# Altium footprint library IMU_REV_C.PcbLib: 10 footprints
Each footprint in its own frame and in the unit in brackets; x right, y up, seen from the top. Pads: shape width x height; smd on the part's side, far side on the other; paste and mask are expansions set on the pad; w line width, h text height; cw(c..) or ccw(c..) is an arc to the next point about the centre after c.
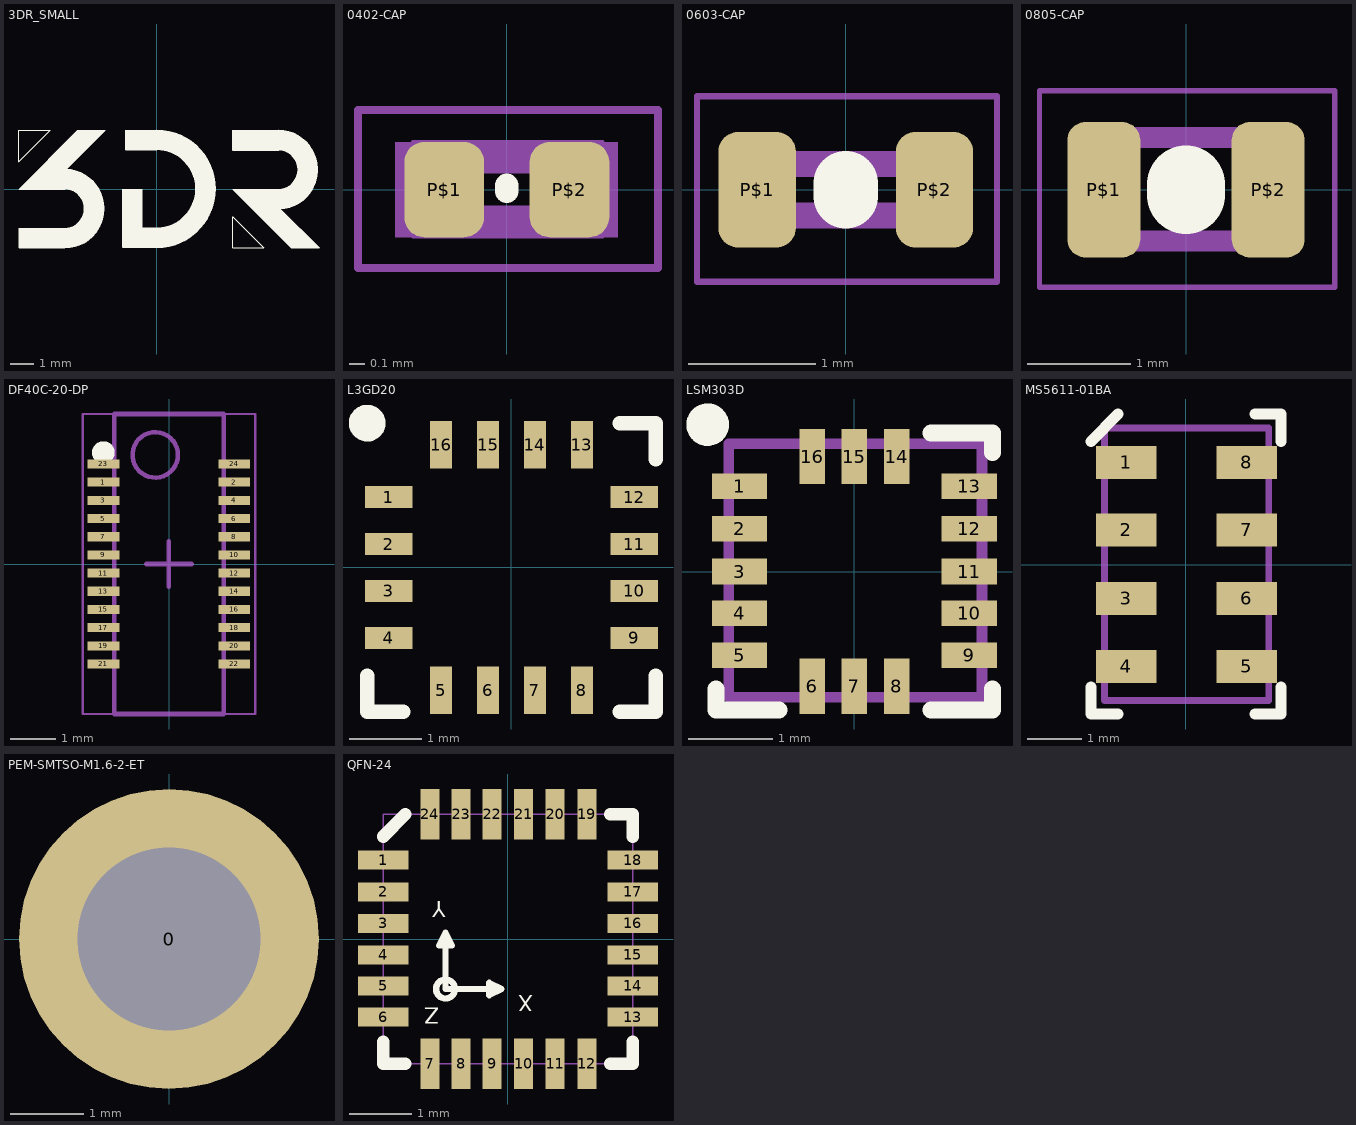
[diagram p0: the footprints below, top view; thin cyan lines are the x and y axes]

## 3DR_SMALL [mil]
Top Overlay:
  drawing of 45 lines, arcs and shapes, not listed
Top Solder:
  region: -235.2,47.62 -235.2,100.65 -182.17,100.65
  region: 182.63,-99.72 129.6,-99.72 129.6,-46.69

## 0402-CAP [mil]
pads (2):
  rrect50% 20x24 smd mask+0: P$1(-15.75,0) P$2(15.75,0)
Top Overlay:
  lines w6: 0,-0.39 0,1
Mechanical 16:
  rectangle: -28.04,-12 -16.04,12
  rectangle: 15.96,-12 27.96,12
  lines w1: -23.62,-11.81 24,-11.81 24,12 -23.62,12 -23.62,-11.81
  lines w2: -37.4,-19.68 38,-19.68 38,20 -37.4,20 -37.4,-19.68
  lines w8: -20,-8 20,-8 ; -20,8 20,8
3D body: height 19.68, standoff 0, extent -19.69,-9.84 19.69,9.84

## 0603-CAP [mil] "0603-CAP"
pads (2):
  rrect50% 24x36 smd mask+0: P$1(-27.56,0) P$2(27.56,0)
Top Overlay:
  lines w20: 0,-2 0,2
Mechanical 16:
  rectangle: -28,-12 -16,12
  rectangle: 16,-12 28,12
  lines w2: -46.26,-28.54 47,-28.54 47,29 -46.26,29 -46.26,-28.54
  lines w8: -20,-8 20,-8 ; -20,8 20,8
3D body: height 34.25, standoff -0.39, extent -31.5,-15.95 31.5,15.94

## 0805-CAP [mil]
pads (2):
  rrect50% 28x52 smd mask+0: P$1(-31.5,0) P$2(31.5,0)
Top Overlay:
  lines w30: 0,-2 0,2
Mechanical 16:
  rectangle: 24,-23.67 40,24
  rectangle: -39.37,-23.67 -23.62,24
  lines w2: -56.1,-37.4 -56.1,38 57,38 57,-37.4 -56.1,-37.4
  lines w8: -23.62,-19.68 24,-19.68 ; -23.62,20 24,20
3D body: height 30.79, standoff 0, extent -39.37,-24.6 39.37,24.6

## DF40C-20-DP [mm]
height 2
pads (24):
  rect 0.7x0.2 smd mask+0: 1(-1.444,1.8) 2(1.436,1.8) 3(-1.444,1.4) 4(1.436,1.4) 5(-1.444,1) 6(1.436,1) 7(-1.444,0.6) 8(1.436,0.6) 9(-1.444,0.2) 10(1.436,0.2) 11(-1.444,-0.2) 12(1.436,-0.2) 13(-1.444,-0.6) 14(1.436,-0.6) 15(-1.444,-1) 16(1.436,-1) 17(-1.444,-1.4) 18(1.436,-1.4) 19(-1.444,-1.8) 20(1.436,-1.8) 21(-1.444,-2.2) 22(1.436,-2.2) 23(-1.444,2.2) 24(1.436,2.2)
Top Overlay:
  circle w0.25: c-1.444,2.45 r0.125
Mechanical 13:
  circle w0.1: c-0.304,2.4 r0.5
  lines w0.1: -1.2,3.3 -1.2,-3.3 1.2,-3.3 1.2,3.3 ; -1.2,3.3 1.2,3.3 ; -1.2,3.3 -1.2,3.3 ; 1.2,3.3 1.2,3.3
Mechanical 15:
  lines w0.05: -1.9,-3.3 -1.9,3.3 1.9,3.3 1.9,-3.3 -1.9,-3.3
  lines w0.1: -0.504,0 0.496,0 ; -0.004,-0.5 -0.004,0.5
3D body: height 1.09, standoff -0.05, extent -1.47,-2.76 1.5,2.76

## L3GD20 [mil] "4x4x1"
pads (16):
  rect 26x12 smd mask+0: 1(-66.93,38.39) 2(-66.93,12.8) 3(-66.93,-12.8) 4(-66.93,-38.39) 9(66.93,-38.39) 10(66.93,-12.8) 11(66.93,12.8) 12(66.93,38.39)
  rect 12x26 smd mask+0: 5(-38.39,-66.93) 6(-12.8,-66.93) 7(12.8,-66.93) 8(38.39,-66.93) 13(38.39,66.93) 14(12.8,66.93) 15(-12.8,66.93) 16(-38.39,66.93)
Top Overlay:
  circle w10: c-78.74,78.74 r5
  lines w8: -78.74,-59.06 -78.74,-78.74 -59.06,-78.74 ; 59.06,-78.74 78.74,-78.74 78.74,-59.06 ; 59.06,78.74 78.74,78.74 78.74,59.06
3D body: height 38.78, standoff 0, extent -78.74,-78.74 78.74,78.74

## LSM303D [mil] "LGA-16L"
pads (16):
  rect 26x12 smd mask+0: 1(-53.94,40) 2(-53.94,20) 3(-53.94,0) 4(-53.94,-19.69) 5(-53.94,-39.37) 9(54,-39.37) 10(54,-19.69) 11(54,0) 12(54,20) 13(54,40)
  rect 12x26 smd mask+0: 6(-19.68,-53.94) 7(0,-53.94) 8(20,-53.94) 14(20,54) 15(0,54) 16(-19.68,54)
Top Overlay:
  circle w10: c-68.9,69 r5
  lines w8: -64.96,-55.12 -64.96,-64.96 -35.43,-64.96 ; 36,-64.96 65,-64.96 65,-55.12 ; 36,65 65,65 65,56
Mechanical 16:
  lines w5: -59.06,-59.06 -59.06,60 60,60 60,-59.06 -59.06,-59.06
3D body: height -16.54, standoff -56.69, extent -59.06,-59.06 59.06,59.06

## MS5611-01BA [mil] "MS5611-01BA"
pads (8):
  rect 44x24 smd: 1(-43.31,74) 2(-43.31,25) 3(-43.31,-24.61) 4(-43.31,-73.82) 5(44,-73.82) 6(44,-24.61) 7(44,25) 8(44,74)
Top Overlay:
  lines w8: -68.9,-88.58 -68.9,-108.27 -49.21,-108.27 ; -68.9,89 -49.21,109 ; 50,-108.27 69,-108.27 69,-88.58 ; 50,109 69,109 69,89
Mechanical 16:
  lines w1: -59.06,-98.43 -59.06,99 60,99 60,-98.43 -59.06,-98.43
  lines w5: -59.06,-98.43 -59.06,99 60,99 60,-98.43 -59.06,-98.43
3D body: height 39.37, standoff -1.97, extent -59.32,-97.97 58.79,98.88

## PEM-SMTSO-M1.6-2-ET [mm] "Surface mount thread"
height 2
pads (1):
  round 4.1 hole 2.5 paste-2 mask-2: 0(0,0)
Top Paste:
  lines w1: -1.414,-0.707 ccw(c0,0) -0.707,-1.414 ; -1.414,0.707 cw(c0,0) -0.707,1.414 ; 0.707,-1.414 ccw(c0,0) 1.414,-0.707 ; 0.707,1.414 cw(c0,0) 1.414,0.707
Top Solder:
  lines w1: -1.414,-0.707 ccw(c0,0) -0.707,-1.414 ; -1.414,0.707 cw(c0,0) -0.707,1.414 ; 0.707,-1.414 ccw(c0,0) 1.414,-0.707 ; 0.707,1.414 cw(c0,0) 1.414,0.707
3D body: height 2, standoff -0.48, extent -1.59,-1.83 1.59,1.83

## QFN-24 [mil] "QFN-24"
pads (24):
  rect 32x12 smd: 1(-78.74,50) 2(-78.74,30) 3(-78.74,10) 4(-78.74,-9.84) 5(-78.74,-29.53) 6(-78.74,-49.21) 13(79,-49.21) 14(79,-29.53) 15(79,-9.84) 16(79,10) 17(79,30) 18(79,50)
  rect 12x32 smd: 7(-49.21,-78.74) 8(-29.53,-78.74) 9(-9.84,-78.74) 10(10,-78.74) 11(30,-78.74) 12(50,-78.74) 19(50,79) 20(30,79) 21(10,79) 22(-9.84,79) 23(-29.53,79) 24(-49.21,79)
Top Overlay:
  circle w4: c-39.37,-31.5 r6
  lines w4: -39.37,4 -39.37,-31.5 -3.94,-31.5 ; -39.37,4 -43.31,-3.94 -35.43,-3.94 -39.37,4 ; -3.94,-31.5 -11.81,-35.43 -11.81,-27.56 -3.94,-31.5
  lines w8: -78.74,-64.96 -78.74,-78.74 -64.96,-78.74 ; -78.74,65 -64.96,79 ; 65,-78.74 79,-78.74 79,-64.96 ; 65,79 79,79 79,65
  text "X" at 16,-35.43 h10.2
  text "Y" at -39.37,24 h10.2
  text "Z" at -43.31,-43.31 h10.2
Mechanical 16:
  lines w1: -78.74,-78.74 -78.74,79 79,79 79,-78.74 -78.74,-78.74
3D body: height 35.43, standoff 0, extent -78.82,-78.82 78.82,78.82